# Altium schematic symbol library 74HCT2G125DC_125.SchLib: 1 symbol
Pins are listed as number, name and electrical type; pins without a type are passive.

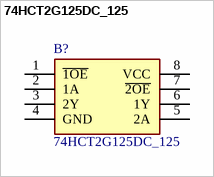
[diagram p0: symbol 74HCT2G125DC_125]

## 74HCT2G125DC_125
designator B?
74HC(T)2G125 - Dual buffer/line driver; 3-state@en-us; Manufacturer_Name: Nexperia; Manufacturer_Part_Number: 74HCT2G125DC,125; Geometry.Height: 1mm; Mouser Part Number: 771-HCT2G125DC125; Mouser Price/Stock: https://www.mouser.co.uk/ProductDetail/Nexperia/74HCT2G125DC125?qs=P62ublwmbi%252B%252B1eQ2FD8Fxg%3D%3D; Datasheet Link: https://assets.nexperia.com/documents/data-sheet/74HC_HCT2G125.pdf
footprint SOP50P310X100-8N
pins: 1 ~{1OE}, 2 1A, 3 2Y, 4 GND, 5 2A, 6 1Y, 7 ~{2OE}, 8 VCC